# Altium footprint library VSON-8.PcbLib: 1 footprints
Each footprint in its own frame and in the unit in brackets; x right, y up, seen from the top. Pads: shape width x height; smd on the part's side, far side on the other; paste and mask are expansions set on the pad; w line width, h text height; cw(c..) or ccw(c..) is an arc to the next point about the centre after c.
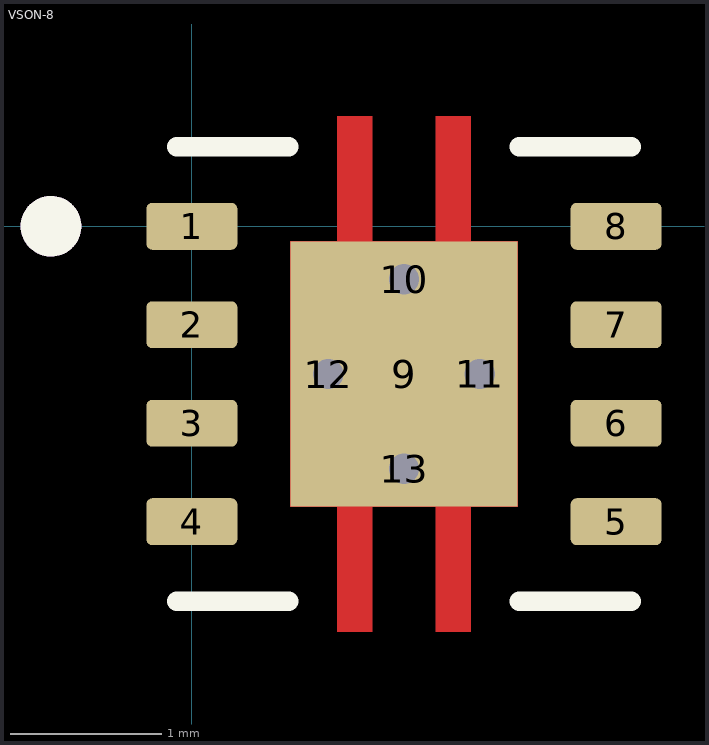
[diagram p0: the footprint, top view; thin cyan lines are the x and y axes]

## VSON-8 [mm]
pads (13):
  rrect25% 0.6x0.31 smd mask+0: 1(0,0) 2(0,-0.65) 3(0,-1.3) 4(0,-1.95) 5(2.8,-1.95) 6(2.8,-1.3) 7(2.8,-0.65) 8(2.8,0)
  rect 1.5x1.75 smd paste-2 mask+0: 9(1.4,-0.975)
  round 0.4 hole 0.2 mask+0: 10(1.4,-0.35) 11(1.9,-0.975) 12(0.9,-0.975) 13(1.4,-1.6)
Top Layer:
  region: 1.84,-0.1 2.15,-0.1 2.15,-1.85 1.84,-1.85 1.84,-2.675 1.61,-2.675 1.61,-1.85 1.19,-1.85 1.19,-2.675 0.96,-2.675 0.96,-1.85 0.65,-1.85 0.65,-0.1 0.96,-0.1 0.96,0.725 1.19,0.725 1.19,-0.1 1.61,-0.1 1.61,0.725 1.84,0.725
Top Overlay:
  circle w0.2: c-0.93,0 r0.1
  lines w0.127: -0.1,-2.475 0.64,-2.475 ; -0.1,0.525 0.64,0.525 ; 2.16,-2.475 2.9,-2.475 ; 2.16,0.525 2.9,0.525
Top Paste:
  region: 1.19,-2.675 0.96,-2.675 0.96,-1.95 1.19,-1.95
  region: 1.84,-2.675 1.61,-2.675 1.61,-1.95 1.84,-1.95
  region: 1.84,0 1.61,0 1.61,0.725 1.84,0.725
  region: 1.19,0 0.96,0 0.96,0.725 1.19,0.725
  region: 2.07,-1.75 0.73,-1.75 0.73,-0.2 2.07,-0.2
Top Solder:
  region: 3.17,-2.175 2.43,-2.175 2.43,-1.725 3.17,-1.725
  region: 3.17,-1.525 2.43,-1.525 2.43,-1.075 3.17,-1.075
  region: 3.17,-0.875 2.43,-0.875 2.43,-0.425 3.17,-0.425
  region: 0.37,-2.175 -0.37,-2.175 -0.37,-1.725 0.37,-1.725
  region: 0.37,-1.525 -0.37,-1.525 -0.37,-1.075 0.37,-1.075
  region: 0.37,-0.875 -0.37,-0.875 -0.37,-0.425 0.37,-0.425
  region: 3.17,-0.225 2.43,-0.225 2.43,0.225 3.17,0.225
  region: 0.37,-0.225 -0.37,-0.225 -0.37,0.225 0.37,0.225
  region: 1.91,-0.03 2.22,-0.03 2.22,-1.92 1.91,-1.92 1.91,-2.745 1.54,-2.745 1.54,-1.92 1.26,-1.92 1.26,-2.745 0.89,-2.745 0.89,-1.92 0.58,-1.92 0.58,-0.03 0.89,-0.03 0.89,0.795 1.26,0.795 1.26,-0.03 1.54,-0.03 1.54,0.795 1.91,0.795
Mechanical 13:
  circle w0.2: c-0.93,0 r0.1
3D body "VSON-8.STEP": height 1, standoff 0, extent -0.107,-2.476 2.893,0.524